# EAGLE library part 27011 (library memory-rp)
MEMORY
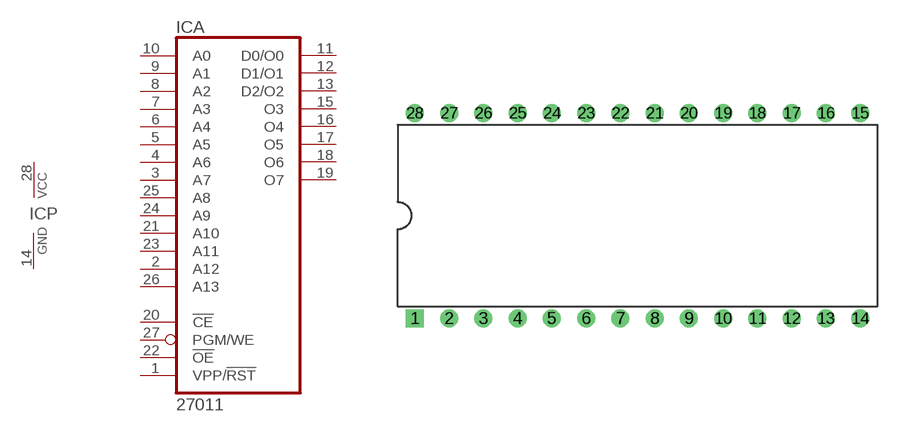
[diagram p49: symbol with the pads of DIL28; footprint DIL28]

Designator prefix IC; gates A=27011 P=PWRN

## 27011  [DIL28]
1  A:VPP/!RST  in
2  A:A12  in
3  A:A7  in
4  A:A6  in
5  A:A5  in
6  A:A4  in
7  A:A3  in
8  A:A2  in
9  A:A1  in
10  A:A0  in
11  A:D0/O0  hiz
12  A:D1/O1  hiz
13  A:D2/O2  hiz
14  P:GND  pwr
15  A:O3  hiz
16  A:O4  hiz
17  A:O5  hiz
18  A:O6  hiz
19  A:O7  hiz
20  A:!CE  in
21  A:A10  in
22  A:!OE  in
23  A:A11  in
24  A:A9  in
25  A:A8  in
26  A:A13  in
27  A:PGM/WE  in
28  P:VCC  pwr

## Footprint DIL28 (pad centres in mm)
Dual In Line Package
drill 0.813 square: 1 -16.51,-7.62
drill 0.813: 2 -13.97,-7.62; 3 -11.43,-7.62; 4 -8.89,-7.62; 5 -6.35,-7.62; 6 -3.81,-7.62; 7 -1.27,-7.62; 8 1.27,-7.62; 9 3.81,-7.62; 10 6.35,-7.62; 11 8.89,-7.62; 12 11.43,-7.62; 13 13.97,-7.62; 14 16.51,-7.62; 15 16.51,7.62; 16 13.97,7.62; 17 11.43,7.62; 18 8.89,7.62; 19 6.35,7.62; 20 3.81,7.62; 21 1.27,7.62; 22 -1.27,7.62; 23 -3.81,7.62; 24 -6.35,7.62; 25 -8.89,7.62; 26 -11.43,7.62; 27 -13.97,7.62; 28 -16.51,7.62